# Altium schematic symbol library BLV.SCHLIB: 20 symbols
Pins are listed as number, name and electrical type; pins without a type are passive.

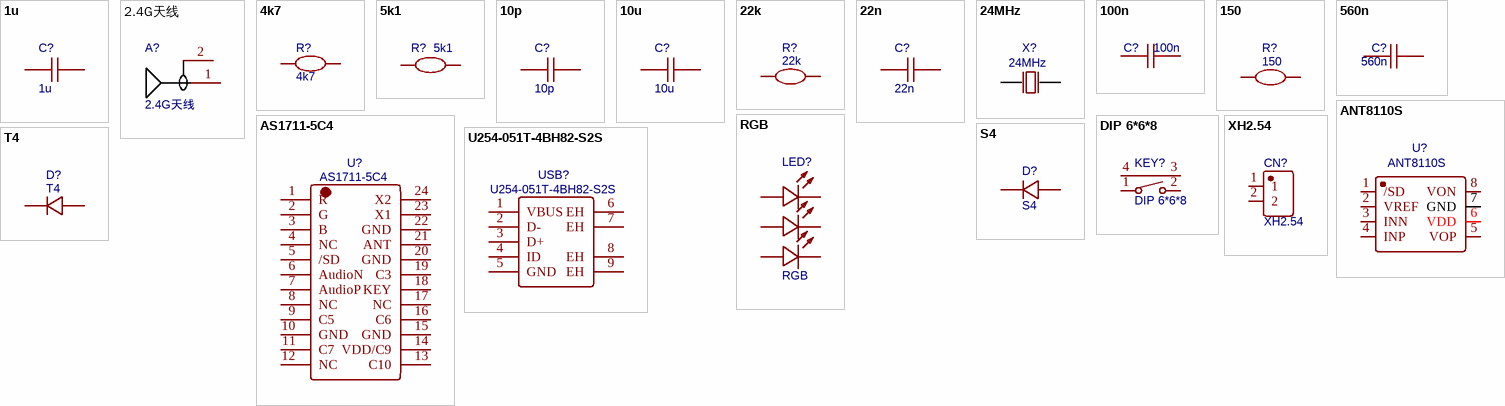
[diagram p0: symbols 1u to XH2.54]

## 1u
designator C?
nameAlias: Value(F); Contributor: LCEDA_Lib; spicePre: C; spiceSymbolName: C_0805_US
footprint C0603
pins: 1, 2

## 2.4G天线
designator A?
BOM_Manufacturer Part: New SchematicLib; Contributor: suanm; spicePre: U; spiceSymbolName: 2.4G天线_右
footprint ANT-RF-BT6-2.4G
pins: 1, 2

## 4k7
designator R?
nameAlias: Value(Ω); Contributor: LCEDA_Lib; spicePre: R; spiceSymbolName: R_0603_EU
footprint R0603 (1/10W)
pins: 1, 2

## 5k1
designator R?
nameAlias: Value(Ω); Contributor: LCEDA_Lib; spicePre: R; spiceSymbolName: R_0603_EU
footprint R0603 (1/10W)
pins: 1, 2

## 10p
designator C?
nameAlias: Value(F); Contributor: LCEDA_Lib; spicePre: C; spiceSymbolName: C_0603_US
footprint C0603
pins: 1, 2

## 10u
designator C?
nameAlias: Value(F); Contributor: LCEDA_Lib; spicePre: C; spiceSymbolName: C_0805_US
footprint C0805
pins: 1, 2

## 22k
designator R?
nameAlias: Value(Ω); Contributor: LCEDA_Lib; spicePre: R; spiceSymbolName: R_0603_EU
footprint R0603 (1/10W)
pins: 1, 2

## 22n
designator C?
nameAlias: Value(F); Contributor: LCEDA_Lib; spicePre: C; spiceSymbolName: C_0603_US
footprint C0603
pins: 1, 2

## 24MHz
designator X?
BOM_Manufacturer: Yangxing Tech; BOM_Manufacturer Part: X49XM24MOB2SC; nameAlias: Frequency; Contributor: LCSC; BOM_Supplier: LCSC; BOM_Supplier Part: C412889; BOM_JLCPCB Part Class: Extended Part; spicePre: X; spiceSymbolName: X49XM24MOB2SC
footprint 49XSMD
pins: 1 OSC1, 2 OSC2

## 100n
designator C?
nameAlias: Value(F); Contributor: LCEDA_Lib; spicePre: C; spiceSymbolName: C_0805_US
footprint C0805
pins: 1, 2

## 150
designator R?
nameAlias: Value(Ω); Contributor: LCEDA_Lib; spicePre: R; spiceSymbolName: R_0603_EU
footprint R0603 (1/10W)
pins: 1, 2

## 560n
designator C?
nameAlias: Value(F); Contributor: LCEDA_Lib; spicePre: C; spiceSymbolName: C_0603_US
footprint C0603
pins: 1, 2

## ANT8110S
designator U?
BOM_Manufacturer: null; Contributor: LCSC; BOM_Supplier: LCSC; BOM_Supplier Part: C9900000568; BOM_Manufacturer Part: ANT8110S; BOM_JLCPCB Part Class: Extended Part; spicePre: U; spiceSymbolName: ANT8110S
footprint SOP8
pins: 1 /SD, 2 VREF, 3 INN, 4 INP, 5 VOP, 6 VDD, 7 GND, 8 VON

## AS1711-5C4
designator U?
Contributor: lekee085; BOM_Supplier: JL杰理; spicePre: U; spiceSymbolName: AS1711-5C4
footprint QSOP24
pins: 1 R, 2 G, 3 B, 4 NC, 5 /SD, 6 AudioN, 7 AudioP, 8 NC, 9 C5, 10 GND, 11 C7, 12 NC, 13 C10, 14 VDD/C9, 15 GND, 16 C6, 17 NC, 18 KEY, 19 C3, 20 GND, 21 ANT, 22 GND, 23 X1, 24 X2

## DIP 6*6*8
designator KEY?
BOM_Manufacturer: 韩国韩荣; BOM_Manufacturer Part: K2-1102AQ-H4CW-01; Contributor: LCSC; BOM_Supplier: LCSC; BOM_Supplier Part: C961738; BOM_JLCPCB Part Class: Extended Part; spicePre: S; spiceSymbolName: K2-1102AQ-H4CW-01
footprint SW-TH_K2-1102BQ-G4CW-01
pins: 1, 2, 3, 4

## RGB
designator LED?
BOM_Manufacturer: Hongli Zhihui (HONGLITRONIC); BOM_Manufacturer Part: HL-AF-5060H271BU46FU79GC-S1-THL; Contributor: LCSC; BOM_Supplier: LCSC; BOM_Supplier Part: C219409; BOM_JLCPCB Part Class: Extended Part; spicePre: L; spiceSymbolName: HL-AF-5060H271BU46FU79GC-S1-THL
footprint LED 5050 (白色5050LED                                           淘宝ID:黄晶宝石)
pins: 1 C, 2 C, 3 C, 4 A, 5 A, 6 A

## S4
designator D?
BOM_Manufacturer: CJ; BOM_Manufacturer Part: 1N4148W T4; Contributor: 立创EDA官方封装库; BOM_Supplier: LCSC; BOM_Supplier Part: C2099; BOM_JLCPCB Part Class: Extended Part; spicePre: D; spiceSymbolName: 1N4148W T4
footprint SOD-123 (2.7x1.6X1.1mm（长宽高，不包括引脚）)
pins: 1 K, 2 A

## T4
designator D?
BOM_Manufacturer: CJ; BOM_Manufacturer Part: 1N4148W T4; Contributor: 立创EDA官方封装库; BOM_Supplier: LCSC; BOM_Supplier Part: C2099; BOM_JLCPCB Part Class: Extended Part; spicePre: D; spiceSymbolName: 1N4148W T4
footprint SOD-123 (2.7x1.6X1.1mm（长宽高，不包括引脚）)
pins: 1 K, 2 A

## U254-051T-4BH82-S2S
designator USB?
BOM_Manufacturer: XKB Connectivity(中国星坤); Contributor: LCSC; BOM_Supplier: LCSC; BOM_Supplier Part: C908456; BOM_Manufacturer Part: U254-051T-4BH82-S2S; BOM_JLCPCB Part Class: Extended Part; spicePre: U; spiceSymbolName: U254-051T-4BH82-S2S
footprint USB-MICRO_B (micro型USB ，5.9*8.2*2.5mm)
pins: 1 VBUS, 2 D-, 3 D+, 4 ID, 5 GND, 6 EH, 7 EH, 8 EH, 9 EH

## XH2.54
designator CN?
BOM_Manufacturer: null; BOM_Manufacturer Part: CONN-TH_XH-2A; Contributor: LCSC; BOM_Supplier: LCSC; BOM_Supplier Part: C9900010848; BOM_JLCPCB Part Class: Extended Part; spicePre: C; spiceSymbolName: CONN-TH_XH-2A_C9900010848
footprint XH2.54-LI-2P (接插件，2P)
pins: 1, 2